# Altium schematic symbol library 1_2OHM.SCHLIB: 1 symbol
Pins are listed as number, name and electrical type; pins without a type are passive.

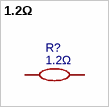
[diagram p0: symbol 1.2Ω]

## 1.2Ω
designator R?
Manufacturer: EVER OHMS(天二科技); Manufacturer Part: CR1210F1R20P05S; nameAlias: Value; Contributor: LCSC; Supplier: LCSC; Supplier Part: C174381; JLCPCB Part Class: Extended Part; spicePre: R; spiceSymbolName: CR1210F1R2P05
footprint R1210
pins: 1, 2